# Altium footprint library TerminalBlock_MetzConnect.PcbLib: 61 footprints (part 1 of 4)
Each footprint in its own frame and in the unit in brackets; x right, y up, seen from the top. Pads: shape width x height; smd on the part's side, far side on the other; paste and mask are expansions set on the pad; w line width, h text height; cw(c..) or ccw(c..) is an arc to the next point about the centre after c.
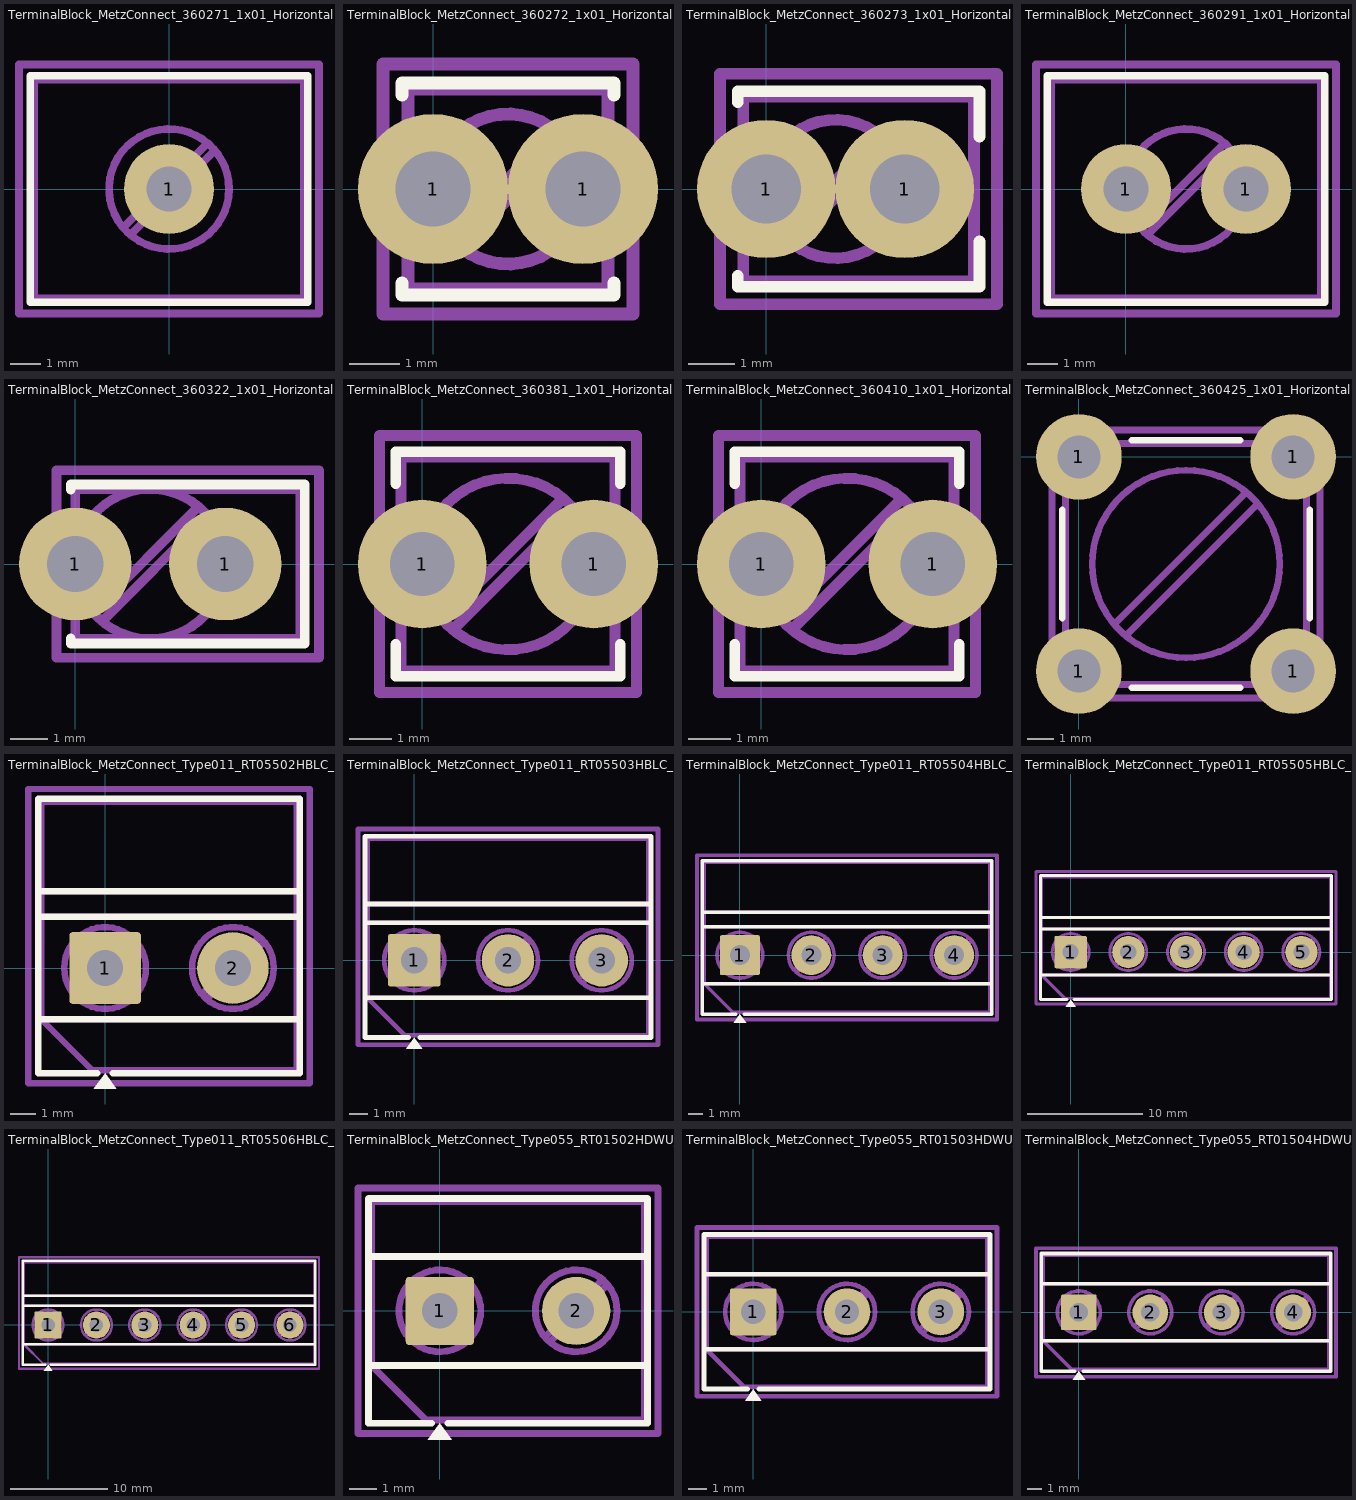
[diagram p0: the footprints below, top view; thin cyan lines are the x and y axes]

## TerminalBlock_MetzConnect_360271_1x01_Horizontal_ScrewM3.0_Boxed [mm]
pads (1):
  round 3 hole 1.5: 1(0,0)
F.SilkS:
  lines w0.254: -4.62,-3.77 -4.62,3.77 4.62,3.77 4.62,-3.77 -4.62,-3.77
F.Fab:
  circle w0.254: c0,0 r2
  lines w0.254: -1.517,-1.273 1.273,1.517 ; -1.273,-1.517 1.517,1.273 ; -4.5,-3.65 -4.5,3.65 4.5,3.65 4.5,-3.65 -4.5,-3.65
  text "'.Designator'" at -4.047,3.93 h1
F.CrtYd:
  lines w0.254: -5,-4.15 -5,4.15 5,4.15 5,-4.15 -5,-4.15

## TerminalBlock_MetzConnect_360272_1x01_Horizontal_ScrewM2.6 [mm]
pads (2):
  round 3 hole 1.5: 1(0,0) 1(3,0)
F.SilkS:
  lines w0.254: -0.62,-1.88 -0.62,-2.12 3.62,-2.12 3.62,-1.88 ; -0.62,1.88 -0.62,2.12 3.62,2.12 3.62,1.88
F.Fab:
  circle w0.254: c1.5,0 r1.5
  lines w0.254: 0.362,-0.955 2.455,1.138 ; 0.545,-1.138 2.638,0.955 ; -0.5,-2 -0.5,2 3.5,2 3.5,-2 -0.5,-2
  text "'.Designator'" at -2.547,2.28 h1
F.CrtYd:
  lines w0.254: -1,-2.5 -1,2.5 4,2.5 4,-2.5 -1,-2.5

## TerminalBlock_MetzConnect_360273_1x01_Horizontal_ScrewM2.6_WireProtection [mm]
pads (2):
  round 3 hole 1.5: 1(0,0) 1(3,0)
F.SilkS:
  lines w0.254: -0.62,-1.88 -0.62,-2.12 4.62,-2.12 4.62,-1.138 ; -0.62,1.88 -0.62,2.12 4.62,2.12 4.62,1.138
F.Fab:
  circle w0.254: c1.5,0 r1.5
  lines w0.254: 0.362,-0.955 2.455,1.138 ; 0.545,-1.138 2.638,0.955 ; -0.5,-2 -0.5,2 4.5,2 4.5,-2 -0.5,-2
  text "'.Designator'" at -2.047,2.28 h1
F.CrtYd:
  lines w0.254: -1,-2.5 -1,2.5 5,2.5 5,-2.5 -1,-2.5

## TerminalBlock_MetzConnect_360291_1x01_Horizontal_ScrewM3.0_Boxed [mm]
pads (2):
  round 3 hole 1.5: 1(0,0) 1(4,0)
F.SilkS:
  lines w0.254: -2.62,-3.77 -2.62,3.77 6.62,3.77 6.62,-3.77 -2.62,-3.77
F.Fab:
  circle w0.254: c2,0 r2
  lines w0.254: 0.483,-1.273 3.273,1.517 ; 0.727,-1.517 3.517,1.273 ; -2.5,-3.65 -2.5,3.65 6.5,3.65 6.5,-3.65 -2.5,-3.65
  text "'.Designator'" at -2.047,3.93 h1
F.CrtYd:
  lines w0.254: -3,-4.15 -3,4.15 7,4.15 7,-4.15 -3,-4.15

## TerminalBlock_MetzConnect_360322_1x01_Horizontal_ScrewM3.0_WireProtection [mm]
pads (2):
  round 3 hole 1.5: 1(0,0) 1(4,0)
F.SilkS:
  lines w0.254: -0.12,-1.976 -0.12,-2.12 6.12,-2.12 6.12,2.12 -0.12,2.12 -0.12,1.976
F.Fab:
  circle w0.254: c2,0 r2
  lines w0.254: 0.483,-1.273 3.273,1.517 ; 0.727,-1.517 3.517,1.273 ; 0,-2 0,2 6,2 6,-2 0,-2
  text "'.Designator'" at -1.047,2.28 h1
F.CrtYd:
  lines w0.254: -0.5,-2.5 -0.5,2.5 6.5,2.5 6.5,-2.5 -0.5,-2.5

## TerminalBlock_MetzConnect_360381_1x01_Horizontal_ScrewM3.0 [mm]
pads (2):
  round 3 hole 1.5: 1(0,0) 1(4,0)
F.SilkS:
  lines w0.254: -0.62,-1.88 -0.62,-2.62 4.62,-2.62 4.62,-1.88 ; -0.62,1.88 -0.62,2.62 4.62,2.62 4.62,1.88
F.Fab:
  circle w0.254: c2,0 r2
  lines w0.254: 0.483,-1.273 3.273,1.517 ; 0.727,-1.517 3.517,1.273 ; -0.5,-2.5 -0.5,2.5 4.5,2.5 4.5,-2.5 -0.5,-2.5
  text "'.Designator'" at -2.047,2.78 h1
F.CrtYd:
  lines w0.254: -1,-3 -1,3 5,3 5,-3 -1,-3

## TerminalBlock_MetzConnect_360410_1x01_Horizontal_ScrewM3.0 [mm]
pads (2):
  round 3 hole 1.5: 1(0,0) 1(4,0)
F.SilkS:
  lines w0.254: -0.62,-1.88 -0.62,-2.62 4.62,-2.62 4.62,-1.88 ; -0.62,1.88 -0.62,2.62 4.62,2.62 4.62,1.88
F.Fab:
  circle w0.254: c2,0 r2
  lines w0.254: 0.483,-1.273 3.273,1.517 ; 0.727,-1.517 3.517,1.273 ; -0.5,-2.5 -0.5,2.5 4.5,2.5 4.5,-2.5 -0.5,-2.5
  text "'.Designator'" at -2.047,2.78 h1
F.CrtYd:
  lines w0.254: -1,-3 -1,3 5,3 5,-3 -1,-3

## TerminalBlock_MetzConnect_360425_1x01_Horizontal_ScrewM4.0_Boxed [mm]
pads (4):
  round 3.2 hole 1.6: 1(0,-8) 1(0,0) 1(8,-8) 1(8,0)
F.SilkS:
  lines w0.254: -0.62,-6.015 -0.62,-1.985 ; 1.985,-8.62 6.015,-8.62 ; 1.985,0.62 6.015,0.62 ; 8.62,-6.015 8.62,-1.985
F.Fab:
  circle w0.254: c4,-4 r3.5
  lines w0.254: 1.346,-6.227 6.227,-1.346 ; 1.773,-6.654 6.654,-1.773 ; -0.5,-8.5 -0.5,0.5 8.5,0.5 8.5,-8.5 -0.5,-8.5
  text "'.Designator'" at -0.047,0.78 h1
F.CrtYd:
  lines w0.254: -1,-9 -1,1 9,1 9,-9 -1,-9

## TerminalBlock_MetzConnect_Type011_RT05502HBLC_1x02_P5.00mm_Horizontal [mm]
pads (2):
  rrect9% 2.8x2.8 hole 1.4: 1(0,0)
  round 2.8 hole 1.4: 2(5,0)
F.SilkS:
  region: 0.44,-4.73 -0.44,-4.73 0,-4.12
  lines w0.254: -2.62,-2 7.62,-2 ; -2.62,2 7.62,2 ; -2.62,3 7.62,3 ; -0.3,-4.12 -2.62,-4.12 -2.62,6.62 7.62,6.62 7.62,-4.12 0.3,-4.12
F.Fab:
  circle w0.254: c0,0 r1.6
  circle w0.254: c5,0 r1.6
  lines w0.254: -2.5,2 7.5,2 ; -2.5,3 7.5,3 ; -1.213,-1.018 1.018,1.213 ; -1.018,-1.213 1.213,1.018 ; 3.787,-1.018 6.018,1.213 ; 3.982,-1.213 6.213,1.018 ; 7.5,-2 -2.5,-2 ; -2.5,-2 -2.5,6.5 7.5,6.5 7.5,-4 -0.5,-4 -2.5,-2
  text "'.Designator'" at -1.547,-4.09 h1
F.CrtYd:
  lines w0.254: -3,-4.5 -3,7 8,7 8,-4.5 -3,-4.5

## TerminalBlock_MetzConnect_Type011_RT05503HBLC_1x03_P5.00mm_Horizontal [mm]
pads (3):
  rrect9% 2.8x2.8 hole 1.4: 1(0,0)
  round 2.8 hole 1.4: 2(5,0) 3(10,0)
F.SilkS:
  region: 0.44,-4.73 -0.44,-4.73 0,-4.12
  lines w0.254: -2.62,-2 12.62,-2 ; -2.62,2 12.62,2 ; -2.62,3 12.62,3 ; -0.3,-4.12 -2.62,-4.12 -2.62,6.62 12.62,6.62 12.62,-4.12 0.3,-4.12
F.Fab:
  circle w0.254: c0,0 r1.6
  circle w0.254: c5,0 r1.6
  circle w0.254: c10,0 r1.6
  lines w0.254: -2.5,2 12.5,2 ; -2.5,3 12.5,3 ; -1.213,-1.018 1.018,1.213 ; -1.018,-1.213 1.213,1.018 ; 3.787,-1.018 6.018,1.213 ; 3.982,-1.213 6.213,1.018 ; 8.787,-1.018 11.018,1.213 ; 8.982,-1.213 11.213,1.018 ; 12.5,-2 -2.5,-2 ; -2.5,-2 -2.5,6.5 12.5,6.5 12.5,-4 -0.5,-4 -2.5,-2
  text "'.Designator'" at 0.953,-4.09 h1
F.CrtYd:
  lines w0.254: -3,-4.5 -3,7 13,7 13,-4.5 -3,-4.5

## TerminalBlock_MetzConnect_Type011_RT05504HBLC_1x04_P5.00mm_Horizontal [mm]
pads (4):
  rrect9% 2.8x2.8 hole 1.4: 1(0,0)
  round 2.8 hole 1.4: 2(5,0) 3(10,0) 4(15,0)
F.SilkS:
  region: 0.44,-4.73 -0.44,-4.73 0,-4.12
  lines w0.254: -2.62,-2 17.62,-2 ; -2.62,2 17.62,2 ; -2.62,3 17.62,3 ; -0.3,-4.12 -2.62,-4.12 -2.62,6.62 17.62,6.62 17.62,-4.12 0.3,-4.12
F.Fab:
  circle w0.254: c0,0 r1.6
  circle w0.254: c5,0 r1.6
  circle w0.254: c10,0 r1.6
  circle w0.254: c15,0 r1.6
  lines w0.254: -2.5,2 17.5,2 ; -2.5,3 17.5,3 ; -1.213,-1.018 1.018,1.213 ; -1.018,-1.213 1.213,1.018 ; 3.787,-1.018 6.018,1.213 ; 3.982,-1.213 6.213,1.018 ; 8.787,-1.018 11.018,1.213 ; 8.982,-1.213 11.213,1.018 ; 13.787,-1.018 16.018,1.213 ; 13.982,-1.213 16.213,1.018 ; 17.5,-2 -2.5,-2 ; -2.5,-2 -2.5,6.5 17.5,6.5 17.5,-4 -0.5,-4 -2.5,-2
  text "'.Designator'" at 3.453,-4.09 h1
F.CrtYd:
  lines w0.254: -3,-4.5 -3,7 18,7 18,-4.5 -3,-4.5

## TerminalBlock_MetzConnect_Type011_RT05505HBLC_1x05_P5.00mm_Horizontal [mm]
pads (5):
  rrect9% 2.8x2.8 hole 1.4: 1(0,0)
  round 2.8 hole 1.4: 2(5,0) 3(10,0) 4(15,0) 5(20,0)
F.SilkS:
  region: 0.44,-4.73 -0.44,-4.73 0,-4.12
  lines w0.254: -2.62,-2 22.62,-2 ; -2.62,2 22.62,2 ; -2.62,3 22.62,3 ; -0.3,-4.12 -2.62,-4.12 -2.62,6.62 22.62,6.62 22.62,-4.12 0.3,-4.12
F.Fab:
  circle w0.254: c0,0 r1.6
  circle w0.254: c5,0 r1.6
  circle w0.254: c10,0 r1.6
  circle w0.254: c15,0 r1.6
  circle w0.254: c20,0 r1.6
  lines w0.254: -2.5,2 22.5,2 ; -2.5,3 22.5,3 ; -1.213,-1.018 1.018,1.213 ; -1.018,-1.213 1.213,1.018 ; 3.787,-1.018 6.018,1.213 ; 3.982,-1.213 6.213,1.018 ; 8.787,-1.018 11.018,1.213 ; 8.982,-1.213 11.213,1.018 ; 13.787,-1.018 16.018,1.213 ; 13.982,-1.213 16.213,1.018 ; 18.787,-1.018 21.018,1.213 ; 18.982,-1.213 21.213,1.018 ; 22.5,-2 -2.5,-2 ; -2.5,-2 -2.5,6.5 22.5,6.5 22.5,-4 -0.5,-4 -2.5,-2
  text "'.Designator'" at 5.953,-4.09 h1
F.CrtYd:
  lines w0.254: -3,-4.5 -3,7 23,7 23,-4.5 -3,-4.5

## TerminalBlock_MetzConnect_Type011_RT05506HBLC_1x06_P5.00mm_Horizontal [mm]
pads (6):
  rrect9% 2.8x2.8 hole 1.4: 1(0,0)
  round 2.8 hole 1.4: 2(5,0) 3(10,0) 4(15,0) 5(20,0) 6(25,0)
F.SilkS:
  region: 0.44,-4.73 -0.44,-4.73 0,-4.12
  lines w0.254: -2.62,-2 27.62,-2 ; -2.62,2 27.62,2 ; -2.62,3 27.62,3 ; -0.3,-4.12 -2.62,-4.12 -2.62,6.62 27.62,6.62 27.62,-4.12 0.3,-4.12
F.Fab:
  circle w0.254: c0,0 r1.6
  circle w0.254: c5,0 r1.6
  circle w0.254: c10,0 r1.6
  circle w0.254: c15,0 r1.6
  circle w0.254: c20,0 r1.6
  circle w0.254: c25,0 r1.6
  lines w0.254: -2.5,2 27.5,2 ; -2.5,3 27.5,3 ; -1.213,-1.018 1.018,1.213 ; -1.018,-1.213 1.213,1.018 ; 3.787,-1.018 6.018,1.213 ; 3.982,-1.213 6.213,1.018 ; 8.787,-1.018 11.018,1.213 ; 8.982,-1.213 11.213,1.018 ; 13.787,-1.018 16.018,1.213 ; 13.982,-1.213 16.213,1.018 ; 18.787,-1.018 21.018,1.213 ; 18.982,-1.213 21.213,1.018 ; 23.787,-1.018 26.018,1.213 ; 23.982,-1.213 26.213,1.018 ; 27.5,-2 -2.5,-2 ; -2.5,-2 -2.5,6.5 27.5,6.5 27.5,-4 -0.5,-4 -2.5,-2
  text "'.Designator'" at 8.453,-4.09 h1
F.CrtYd:
  lines w0.254: -3,-4.5 -3,7 28,7 28,-4.5 -3,-4.5

## TerminalBlock_MetzConnect_Type055_RT01502HDWU_1x02_P5.00mm_Horizontal [mm]
pads (2):
  rrect10% 2.5x2.5 hole 1.3: 1(0,0)
  round 2.5 hole 1.3: 2(5,0)
F.SilkS:
  region: 0.44,-4.73 -0.44,-4.73 0,-4.12
  lines w0.254: -2.62,-2 7.62,-2 ; -2.62,2 7.62,2 ; -0.3,-4.12 -2.62,-4.12 -2.62,4.12 7.62,4.12 7.62,-4.12 0.3,-4.12
F.Fab:
  circle w0.254: c0,0 r1.5
  circle w0.254: c5,0 r1.5
  lines w0.254: -2.5,2 7.5,2 ; -1.138,-0.955 0.955,1.138 ; -0.955,-1.138 1.138,0.955 ; 3.862,-0.955 5.955,1.138 ; 4.045,-1.138 6.138,0.955 ; 7.5,-2 -2.5,-2 ; -2.5,-2 -2.5,4 7.5,4 7.5,-4 -0.5,-4 -2.5,-2
  text "'.Designator'" at -1.547,-3.84 h1
F.CrtYd:
  lines w0.254: -3,-4.5 -3,4.5 8,4.5 8,-4.5 -3,-4.5

## TerminalBlock_MetzConnect_Type055_RT01503HDWU_1x03_P5.00mm_Horizontal [mm]
pads (3):
  rrect10% 2.5x2.5 hole 1.3: 1(0,0)
  round 2.5 hole 1.3: 2(5,0) 3(10,0)
F.SilkS:
  region: 0.44,-4.73 -0.44,-4.73 0,-4.12
  lines w0.254: -2.62,-2 12.62,-2 ; -2.62,2 12.62,2 ; -0.3,-4.12 -2.62,-4.12 -2.62,4.12 12.62,4.12 12.62,-4.12 0.3,-4.12
F.Fab:
  circle w0.254: c0,0 r1.5
  circle w0.254: c5,0 r1.5
  circle w0.254: c10,0 r1.5
  lines w0.254: -2.5,2 12.5,2 ; -1.138,-0.955 0.955,1.138 ; -0.955,-1.138 1.138,0.955 ; 3.862,-0.955 5.955,1.138 ; 4.045,-1.138 6.138,0.955 ; 8.862,-0.955 10.955,1.138 ; 9.045,-1.138 11.138,0.955 ; 12.5,-2 -2.5,-2 ; -2.5,-2 -2.5,4 12.5,4 12.5,-4 -0.5,-4 -2.5,-2
  text "'.Designator'" at 0.953,-3.84 h1
F.CrtYd:
  lines w0.254: -3,-4.5 -3,4.5 13,4.5 13,-4.5 -3,-4.5

## TerminalBlock_MetzConnect_Type055_RT01504HDWU_1x04_P5.00mm_Horizontal [mm]
pads (4):
  rrect10% 2.5x2.5 hole 1.3: 1(0,0)
  round 2.5 hole 1.3: 2(5,0) 3(10,0) 4(15,0)
F.SilkS:
  region: 0.44,-4.73 -0.44,-4.73 0,-4.12
  lines w0.254: -2.62,-2 17.62,-2 ; -2.62,2 17.62,2 ; -0.3,-4.12 -2.62,-4.12 -2.62,4.12 17.62,4.12 17.62,-4.12 0.3,-4.12
F.Fab:
  circle w0.254: c0,0 r1.5
  circle w0.254: c5,0 r1.5
  circle w0.254: c10,0 r1.5
  circle w0.254: c15,0 r1.5
  lines w0.254: -2.5,2 17.5,2 ; -1.138,-0.955 0.955,1.138 ; -0.955,-1.138 1.138,0.955 ; 3.862,-0.955 5.955,1.138 ; 4.045,-1.138 6.138,0.955 ; 8.862,-0.955 10.955,1.138 ; 9.045,-1.138 11.138,0.955 ; 13.862,-0.955 15.955,1.138 ; 14.045,-1.138 16.138,0.955 ; 17.5,-2 -2.5,-2 ; -2.5,-2 -2.5,4 17.5,4 17.5,-4 -0.5,-4 -2.5,-2
  text "'.Designator'" at 3.453,-3.84 h1
F.CrtYd:
  lines w0.254: -3,-4.5 -3,4.5 18,4.5 18,-4.5 -3,-4.5